# Altium footprint library Library_pcb.PcbLib: 40 footprints (part 1 of 3)
Each footprint in its own frame and in the unit in brackets; x right, y up, seen from the top. Pads: shape width x height; smd on the part's side, far side on the other; paste and mask are expansions set on the pad; w line width, h text height; cw(c..) or ccw(c..) is an arc to the next point about the centre after c.
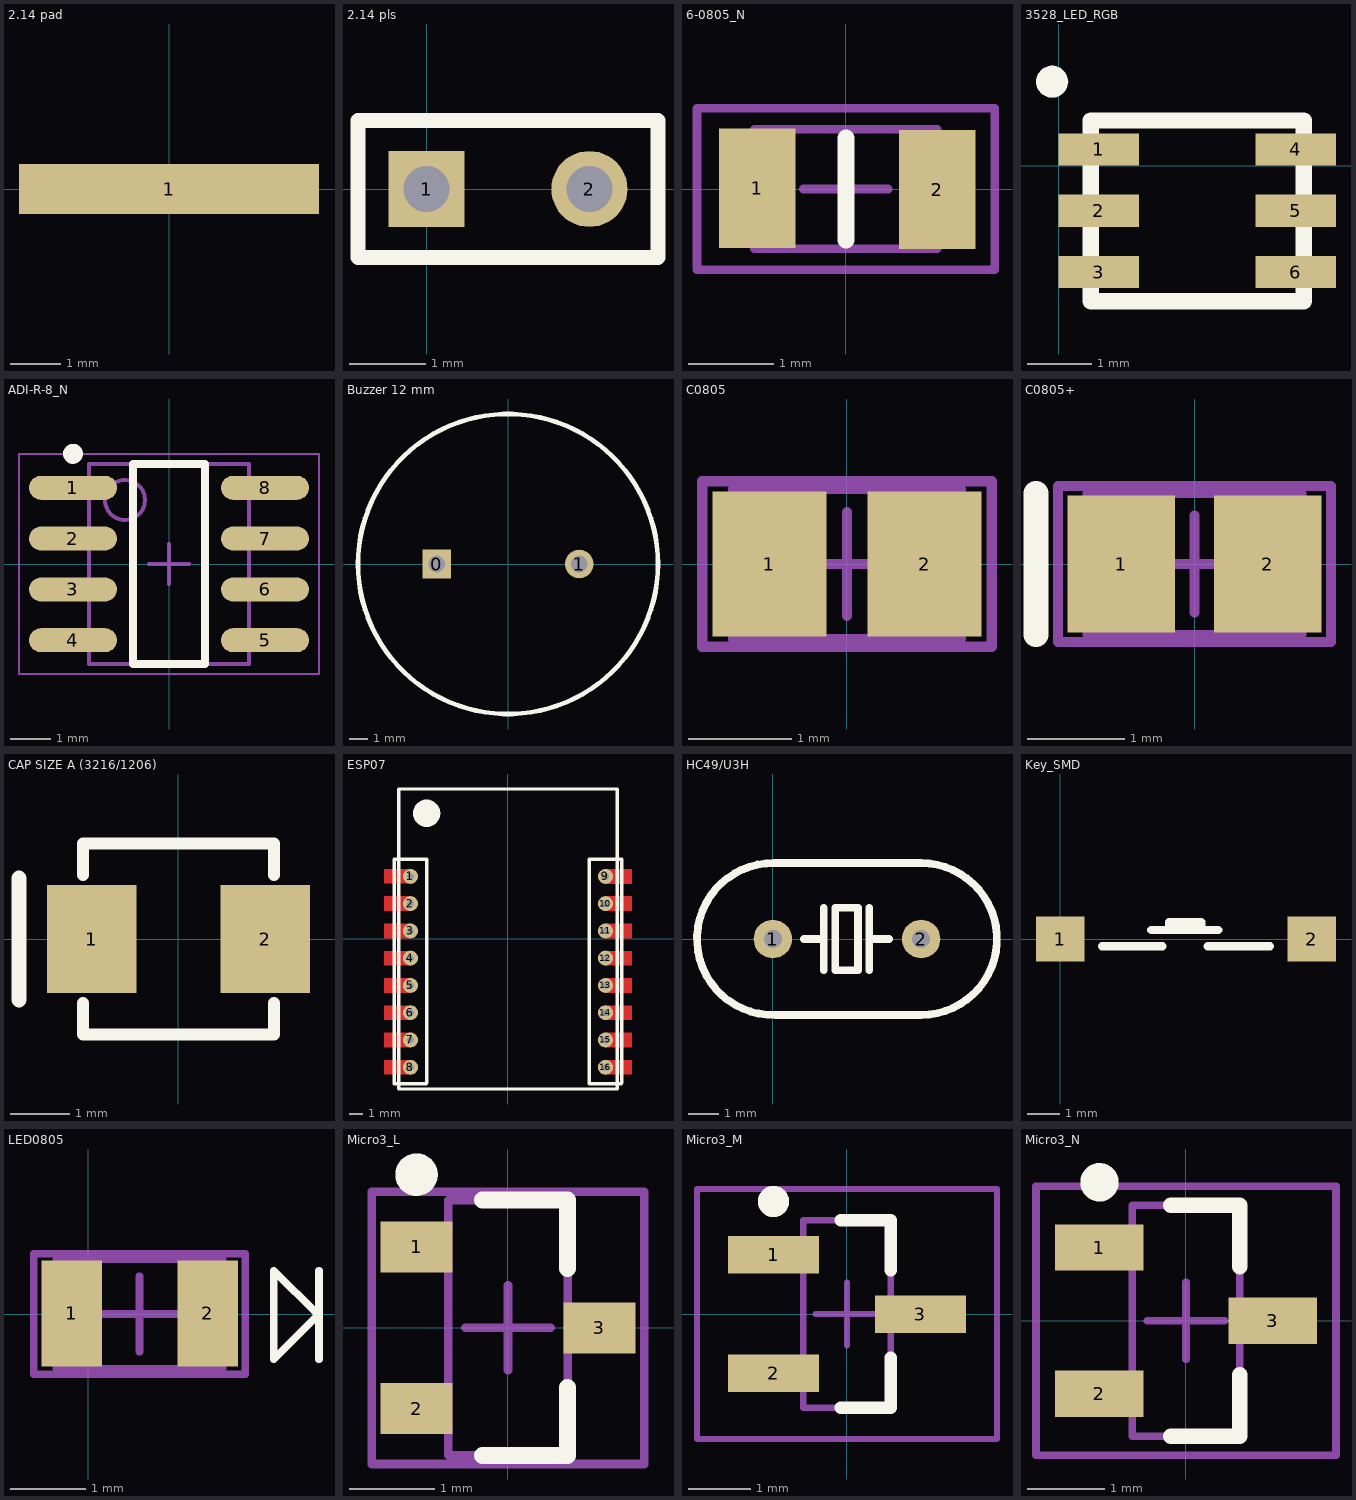
[diagram p0: the footprints below, top view; thin cyan lines are the x and y axes]

## 2.14 pad [mm] "Connector; Header; 2 Position"
pads (1):
  rect 6x1 smd: 1(0,0)

## 2.14 pls [mm] "Connector; Header; 2 Position"
pads (2):
  rect 1x1 hole 0.6: 1(0,0)
  round 1 hole 0.6: 2(2.14,0)
Top Overlay:
  lines w0.2: -0.9,-0.9 3.04,-0.9 3.04,0.9 -0.9,0.9 -0.9,-0.9

## 6-0805_N [mm] "Chip Resistor, Body 2.0x1.2mm, IPC Medium Density"
height 0.7
pads (2):
  rect 0.9x1.4 smd: 1(-1.039,0.009) 2(1.078,-0.007)
Top Overlay:
  lines w0.2: 0,-0.6 0,0.6
Mechanical 13:
  lines w0.1: -1.075,-0.7 1.075,-0.7 1.075,0.7 -1.075,0.7 -1.075,-0.7
Mechanical 15:
  lines w0.1: -0.5,0 0.5,0 ; 0,-0.5 0,0.5 ; -1.75,-0.95 1.75,-0.95 1.75,0.95 -1.75,0.95 -1.75,-0.95
3D body: height 0.7, standoff 0, extent -1.075,-0.7 1.075,0.7

## 3528_LED_RGB [mm]
pads (7):
  rect 1.25x0.5 smd: 1(0.625,0.25) 2(0.625,-0.7) 3(0.625,-1.65) 4(3.675,0.25) 5(3.675,-0.7) 6(3.675,-1.65)
  round 0.5 on Top Overlay: ""(-0.1,1.3)
Top Overlay:
  lines w0.254: 0.5,-2.1 3.8,-2.1 3.8,0.7 0.5,0.7 0.5,-2.1

## ADI-R-8_N [mm] "SOIC, 8-Leads, Body 4.9x3.9mm, Pitch 1.27mm, IPC Medium Density"
height 1.75
pads (8):
  oval 2.2x0.6 smd: 1(-2.4,1.905) 2(-2.4,0.635) 3(-2.4,-0.635) 4(-2.4,-1.905) 5(2.4,-1.905) 6(2.4,-0.635) 7(2.4,0.635) 8(2.4,1.905)
Top Overlay:
  circle w0.25: c-2.4,2.755 r0.125
  lines w0.2: -0.9,-2.5 -0.9,2.5 0.9,2.5 0.9,-2.5 -0.9,-2.5
Mechanical 13:
  circle w0.1: c-1.1,1.6 r0.5
  lines w0.1: -2,-2.5 -2,2.5 2,2.5 2,-2.5 -2,-2.5
Mechanical 15:
  lines w0.05: -3.75,-2.75 -3.75,2.75 3.75,2.75 3.75,-2.75 -3.75,-2.75
  lines w0.1: -0.5,0 0.5,0 ; 0,-0.5 0,0.5
3D body: height 1.75, standoff 0.1, extent -2,-2.5 2,2.5

## Buzzer 12 mm [mm]
pads (2):
  rect 1.524x1.524 hole 0.9: 0(-3.8,0)
  round 1.524 hole 0.9: 1(3.8,0)
Top Overlay:
  circle w0.254: c0,0 r8

## C0805 [mm]
pads (2):
  rect 1.1x1.4 smd: 1(-0.75,0) 2(0.75,0)
Mechanical 13:
  lines w0.1: -1.1,-0.725 -1.1,0.725 1.1,0.725 1.1,-0.725 -1.1,-0.725
Mechanical 15:
  lines w0.1: -0.5,0 0.5,0 ; 0,-0.5 0,0.5 ; -1.4,-0.8 -1.4,0.8 1.4,0.8 1.4,-0.8 -1.4,-0.8
3D body: height 1.4, standoff 0, extent -1.1,-0.725 1.1,0.725

## C0805+ [mm] "Polarity"
pads (2):
  rect 1.1x1.4 smd: 1(-0.75,0) 2(0.75,0)
Top Overlay:
  lines w0.254: -1.625,-0.725 -1.625,0.725
Mechanical 13:
  lines w0.1: -1.1,-0.725 -1.1,0.725 1.1,0.725 1.1,-0.725 -1.1,-0.725
Mechanical 15:
  lines w0.1: -0.5,0 0.5,0 ; 0,-0.5 0,0.5 ; -1.4,-0.8 -1.4,0.8 1.4,0.8 1.4,-0.8 -1.4,-0.8
3D body: height 1.4, standoff 0, extent -1.1,-0.725 1.1,0.725

## CAP SIZE A (3216/1206) [mm]
pads (2):
  rect 1.5x1.8 smd: 1(-1.45,0) 2(1.45,0)
Top Overlay:
  lines w0.2: -1.6,-1.067 -1.6,-1.6 1.6,-1.6 1.6,-1.067 ; -1.6,1.067 -1.6,1.6 1.6,1.6 1.6,1.067
  lines w0.254: -2.667,-1.016 -2.667,1.016

## ESP07 [mm]
pads (16):
  round 1.1 hole 0.5: 1(-7.15,4.594) 2(-7.15,2.594) 3(-7.15,0.594) 4(-7.15,-1.406) 5(-7.15,-3.406) 6(-7.15,-5.406) 7(-7.15,-7.406) 8(-7.15,-9.406) 9(7.15,4.594) 10(7.15,2.594) 11(7.15,0.594) 12(7.15,-1.406) 13(7.15,-3.406) 14(7.15,-5.406) 15(7.15,-7.406) 16(7.15,-9.406)
Top Layer:
  region: 9.076,5.135 7.15,5.135 7.15,4.051 9.076,4.051
  region: 9.076,3.135 7.15,3.135 7.15,2.051 9.076,2.051
  region: 9.076,1.135 7.15,1.135 7.15,0.051 9.076,0.051
  region: 9.076,-0.865 7.15,-0.865 7.15,-1.949 9.076,-1.949
  region: 9.076,-2.865 7.15,-2.865 7.15,-3.949 9.076,-3.949
  region: 9.076,-4.865 7.15,-4.865 7.15,-5.949 9.076,-5.949
  region: 9.076,-6.865 7.15,-6.865 7.15,-7.949 9.076,-7.949
  region: 9.076,-8.865 7.15,-8.865 7.15,-9.949 9.076,-9.949
  rectangle: -9.076,-9.947 -7.15,-8.863
  rectangle: -9.076,-7.947 -7.15,-6.863
  rectangle: -9.076,-5.947 -7.15,-4.863
  rectangle: -9.076,-3.947 -7.15,-2.863
  rectangle: -9.076,-1.947 -7.15,-0.863
  rectangle: -9.076,0.053 -7.15,1.137
  rectangle: -9.076,2.053 -7.15,3.137
  rectangle: -9.076,4.053 -7.15,5.137
Bottom Layer:
  lines w0.3: 6.994,-7.356 7.444,-7.356
Top Overlay:
  lines w0.254: -8.351,4.596 -8.351,-10.607 -5.999,-10.607 -5.95,-10.558 -5.95,-8.206 -5.95,5.853 -8.35,5.853 -8.35,4.653 ; 5.949,4.596 5.949,-10.607 8.301,-10.607 ; 5.95,4.653 5.95,5.853 8.35,5.853 8.35,-8.206 8.35,-10.558 ; -8,-11 8,-11 8,11 -8,11 -8,-11
  lines w1: -5.468,9.222 cw(c-5.968,9.222) -5.468,9.232
Top Solder:
  rectangle: -9.203,3.944 -7.156,5.247
  rectangle: -9.203,1.944 -7.156,3.247
  rectangle: -9.203,-0.056 -7.156,1.247
  rectangle: -9.203,-2.056 -7.156,-0.753
  rectangle: -9.203,-4.056 -7.156,-2.753
  rectangle: -9.203,-6.056 -7.156,-4.753
  rectangle: -9.203,-8.056 -7.156,-6.753
  rectangle: -9.203,-10.056 -7.156,-8.753
  region: 9.203,-8.756 7.156,-8.756 7.156,-10.059 9.203,-10.059
  region: 9.203,-6.756 7.156,-6.756 7.156,-8.059 9.203,-8.059
  region: 9.203,-4.756 7.156,-4.756 7.156,-6.059 9.203,-6.059
  region: 9.203,-2.756 7.156,-2.756 7.156,-4.059 9.203,-4.059
  region: 9.203,-0.756 7.156,-0.756 7.156,-2.059 9.203,-2.059
  region: 9.203,1.244 7.156,1.244 7.156,-0.059 9.203,-0.059
  region: 9.203,3.244 7.156,3.244 7.156,1.941 9.203,1.941
  region: 9.203,5.244 7.156,5.244 7.156,3.941 9.203,3.941

## HC49/U3H [mm]
pads (2):
  round 1.27 hole 0.6: 1(0,0) 2(4.88,0)
Top Overlay:
  lines w0.254: 0.05,2.5 ccw(c0,0) 0.075,-2.499 ; 0.05,2.5 4.875,2.5 cw(c4.88,0) 4.875,-2.5 0.075,-2.5 ; 1.025,0 1.675,0 ; 1.675,-1.025 1.675,0 ; 1.675,1.025 1.675,0 ; 2.8,1 2.8,-1.025 2.05,-1.025 2.05,1.025 2.8,1.025 ; 3.175,-1.025 3.175,0 ; 3.175,1.025 3.175,0 ; 3.825,0 3.175,0

## Key_SMD [mm] "TM1103R25B"
height 2.5
pads (2):
  rect 1.5x1.4 smd: 1(0,0) 2(7.8,0)
Top Overlay:
  lines w0.254: 1.3,-0.225 3.175,-0.225 ; 2.825,0.275 4.9,0.275 ; 3.375,0.35 3.375,0.525 4.375,0.525 4.375,0.3 ; 4.575,-0.225 6.5,-0.225

## LED0805 [mm] "Chip Resistor, Body 2.0x1.2mm, IPC High Density"
height 0.7
pads (2):
  rect 0.8x1.4 smd: 1(-0.219,0.008) 2(1.578,0.008)
Top Overlay:
  lines w0.1: 3.05,-0.6 3.05,0.575 ; 2.45,-0.6 2.45,0.575 3.037,-0.013 2.45,-0.6
Mechanical 13:
  lines w0.1: -0.425,-0.725 1.775,-0.725 1.775,0.725 -0.425,0.725 -0.425,-0.725
Mechanical 15:
  lines w0.1: 0.175,0 1.175,0 ; 0.675,-0.5 0.675,0.5 ; -0.725,-0.8 2.075,-0.8 2.075,0.8 -0.725,0.8 -0.725,-0.8
3D body: height 1.4, standoff 0, extent -0.425,-0.725 1.775,0.725

## Micro3_L [mm] "SOT23, 3-Leads, Body 2.9x1.3mm, Pitch 0.95mm, Lead Span 2.3mm, IPC High Density"
height 1.12
pads (3):
  rect 0.85x0.6 smd: 1(-1.075,0.95) 2(-1.075,-0.95) 3(1.075,0)
Top Overlay:
  circle w0.25: c-1.075,1.8 r0.125
  lines w0.2: -0.3,-1.5 0.7,-1.5 0.7,-0.7 ; -0.3,1.5 0.7,1.5 0.7,0.7
Mechanical 13:
  lines w0.1: -0.7,-1.5 0.7,-1.5 0.7,1.5 -0.7,1.5 -0.7,-1.5
Mechanical 15:
  lines w0.1: -0.5,0 0.5,0 ; 0,-0.5 0,0.5 ; -1.6,-1.6 1.6,-1.6 1.6,1.6 -1.6,1.6 -1.6,-1.6
3D body: height 1.12, standoff 0, extent -0.7,-1.5 0.7,1.5

## Micro3_M [mm] "SOT23, 3-Leads, Body 2.9x1.3mm, Pitch 0.95mm, Lead Span 2.3mm, IPC Low Density"
height 1.12
pads (3):
  rect 1.45x0.6 smd: 1(-1.175,0.95) 2(-1.175,-0.95) 3(1.175,0)
Top Overlay:
  circle w0.25: c-1.175,1.8 r0.125
  lines w0.2: -0.1,-1.5 0.7,-1.5 0.7,-0.7 ; -0.1,1.5 0.7,1.5 0.7,0.7
Mechanical 13:
  lines w0.1: -0.7,-1.5 0.7,-1.5 0.7,1.5 -0.7,1.5 -0.7,-1.5
Mechanical 15:
  lines w0.1: -0.5,0 0.5,0 ; 0,-0.5 0,0.5 ; -2.4,-2 2.4,-2 2.4,2 -2.4,2 -2.4,-2
3D body: height 1.12, standoff 0, extent -0.7,-1.5 0.7,1.5

## Micro3_N [mm] "SOT23, 3-Leads, Body 2.9x1.3mm, Pitch 0.95mm, Lead Span 2.3mm, IPC Medium Density"
height 1.12
pads (3):
  rect 1.15x0.6 smd: 1(-1.125,0.95) 2(-1.125,-0.95) 3(1.125,0)
Top Overlay:
  circle w0.25: c-1.125,1.8 r0.125
  lines w0.2: -0.2,-1.5 0.7,-1.5 0.7,-0.7 ; -0.2,1.5 0.7,1.5 0.7,0.7
Mechanical 13:
  lines w0.1: -0.7,-1.5 -0.7,1.5 0.7,1.5 0.7,-1.5 -0.7,-1.5
Mechanical 15:
  lines w0.1: -0.5,0 0.5,0 ; 0,-0.5 0,0.5 ; -1.95,-1.75 -1.95,1.75 1.95,1.75 1.95,-1.75 -1.95,-1.75
3D body: height 1.12, standoff 0, extent -0.7,-1.5 0.7,1.5